# Altium footprint library MSE450_G05_ASTEROIDS.PcbLib: 3 footprints
Each footprint in its own frame and in the unit in brackets; x right, y up, seen from the top. Pads: shape width x height; smd on the part's side, far side on the other; paste and mask are expansions set on the pad; w line width, h text height; cw(c..) or ccw(c..) is an arc to the next point about the centre after c.
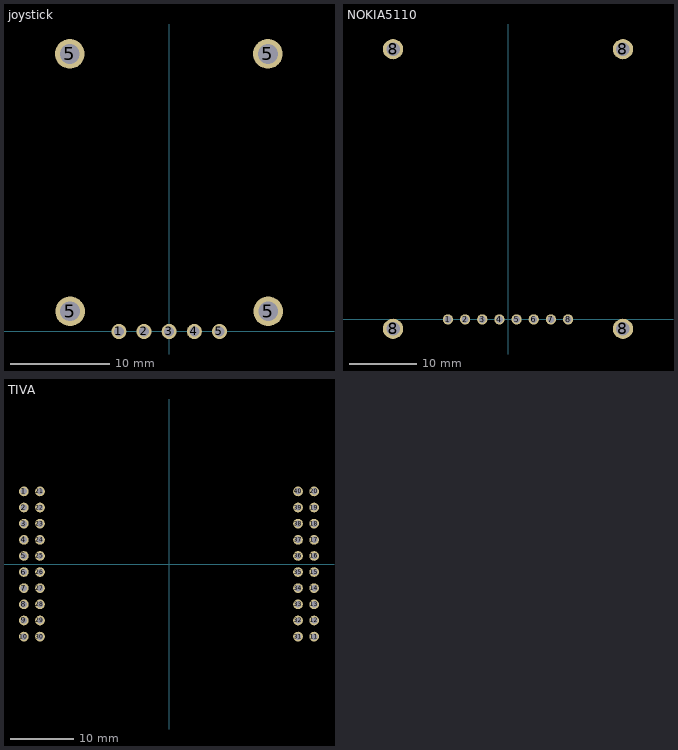
[diagram p0: the footprints below, top view; thin cyan lines are the x and y axes]

## joystick [mm]
pads (9):
  round 1.524 hole 1: 1(-5.08,0) 2(-2.54,0) 3(0,0) 4(2.54,0) 5(5.08,0)
  round 3 hole 2: 5(-10.033,28.032) 5(-10,2.032) 5(9.967,28.032) 5(10,2.032)
3D body "joystickBody.STEP": height 34.52, standoff -0.01, extent -14.207,-8.806 13.446,30.744

## NOKIA5110 [mil]
pads (12):
  round 60 hole 39.37: 1(-350,0) 2(-250,0) 3(-150,0) 4(-50,0) 5(50,0) 6(150,0) 7(250,0) 8(350,0)
  round 118.11 hole 78.74: 8(-670,-55) 8(-670,1575) 8(670,-55) 8(670,1575)
3D body "Nokia5110.STEP": height 236.01, standoff -236.43, extent -846.61,-140.51 826.62,1670.51

## TIVA [mil]
pads (40):
  round 60 hole 39.37: 1(-900,450) 2(-900,350) 3(-900,250) 4(-900,150) 5(-900,50) 6(-900,-50) 7(-900,-150) 8(-900,-250) 9(-900,-350) 10(-900,-450) 11(900,-450) 12(900,-350) 13(900,-250) 14(900,-150) 15(900,-50) 16(900,50) 17(900,150) 18(900,250) 19(900,350) 20(900,450) 21(-800,450) 22(-800,350) 23(-800,250) 24(-800,150) 25(-800,50) 26(-800,-50) 27(-800,-150) 28(-800,-250) 29(-800,-350) 30(-800,-450) 31(800,-450) 32(800,-350) 33(800,-250) 34(800,-150) 35(800,-50) 36(800,50) 37(800,150) 38(800,250) 39(800,350) 40(800,450)
3D body "TivaTM4C123GXL.STEP": height 688.77, standoff -0.21, extent -1010,-930 990,1670